# EAGLE library part 1X20_BOTMNT (library NewSDR)
2X10 Bottom Mount Strip 0.1" Spacing
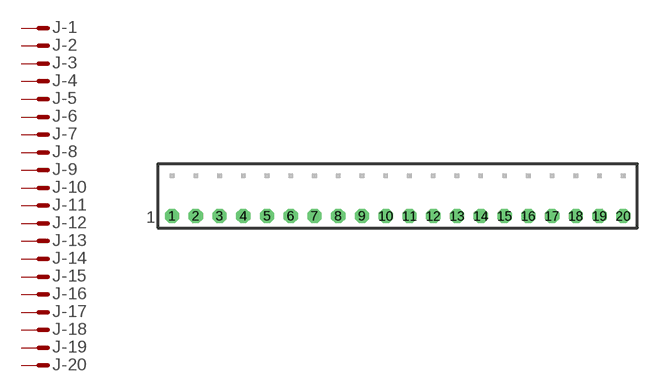
[diagram p77: symbol with the pads of 1X20_BOTMNT; footprint 1X20_BOTMNT]

Designator prefix J; gates -1=M -2=M -3=M -4=M -5=M -6=M -7=M -8=M -9=M -10=M -11=M -12=M -13=M -14=M -15=M -16=M -17=M -18=M -19=M -20=M

## 1X20_BOTMNT  [1X20_BOTMNT]
1  -1:M  pas
2  -2:M  pas
3  -3:M  pas
4  -4:M  pas
5  -5:M  pas
6  -6:M  pas
7  -7:M  pas
8  -8:M  pas
9  -9:M  pas
10  -10:M  pas
11  -11:M  pas
12  -12:M  pas
13  -13:M  pas
14  -14:M  pas
15  -15:M  pas
16  -16:M  pas
17  -17:M  pas
18  -18:M  pas
19  -19:M  pas
20  -20:M  pas

## Footprint 1X20_BOTMNT (pad centres in mm)
1X20 Bottom Mount Strip
drill 1.016 octagon: 1 -24.13,-2.159; 2 -21.59,-2.159; 3 -19.05,-2.159; 4 -16.51,-2.159; 5 -13.97,-2.159; 6 -11.43,-2.159; 7 -8.89,-2.159; 8 -6.35,-2.159; 9 -3.81,-2.159; 10 -1.27,-2.159; 11 1.27,-2.159; 12 3.81,-2.159; 13 6.35,-2.159; 14 8.89,-2.159; 15 11.43,-2.159; 16 13.97,-2.159; 17 16.51,-2.159; 18 19.05,-2.159; 19 21.59,-2.159; 20 24.13,-2.159